# EAGLE library part FET_ZXMP6A17E6 (library node4)
ZXMP6A17E6 P-channel enhancement mode MOSFET
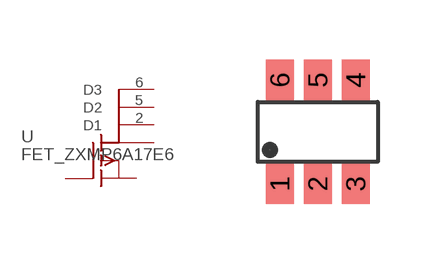
[diagram p5: symbol with the pads of SOT23-6; footprint SOT23-6]

Designator prefix -

## FET_ZXMP6A17E6  [SOT23-6]
1  D  pas
2  D1  pas
3  G  pas
4  S  pas
5  D2  pas
6  D3  pas

## Footprint SOT23-6 (pad centres in mm)
smd 0.7 x 1: 1 -0.95,-1.3; 2 0,-1.3; 3 0.95,-1.3; 4 0.95,1.3; 5 0,1.3; 6 -0.95,1.3